# Altium schematic symbol library motionboard.SchLib: 158 symbols (part 1 of 2)
Pins are listed as number, name and electrical type; pins without a type are passive.

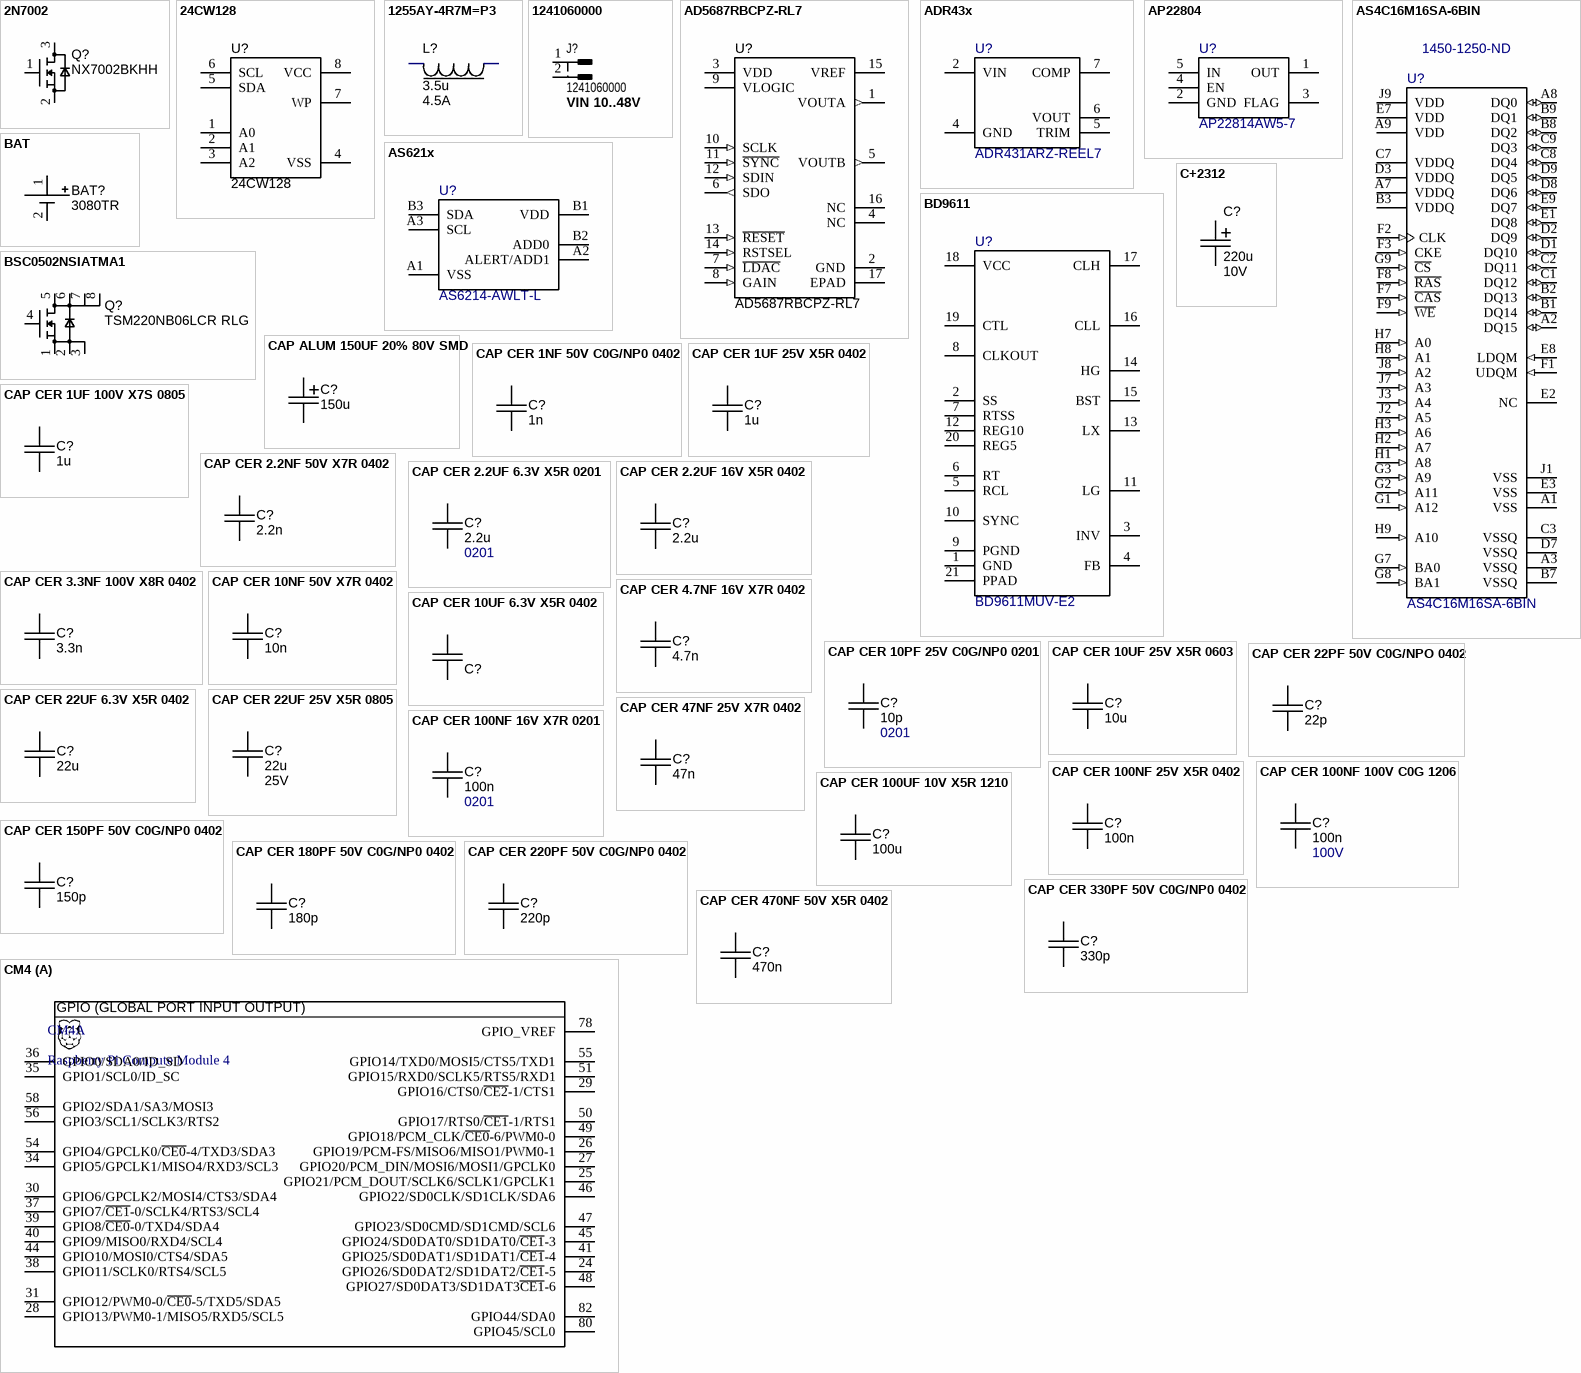
[diagram p0: symbols 2N7002 to CM4]

## 2N7002
designator Q?, comment NX7002BKHH
N-Channel 60 V 350mA (Ta) 380mW (Ta), 2.8W (Tc) Surface Mount DFN0606-3; Value: 2N7002; Supplier 1: Digi-Key; Supplier Part Number 1: 1727-8574-1-ND
footprint SOT8001/DFN0606-3
pins: 1 VCC, 2 VCC, 3 VCC

## 24CW128
designator U?
Supplier 1: Digi-Key; Supplier Part Number 1: 24CW1280T-I/OTCT-ND
footprint SOIC8 (8-Pin Small Outline Integrated Circuit 1.27 mm Pitch, IPC Low Density)
pins: 1 A0, 2 A1, 3 A2, 4 VSS, 5 SDA, 6 SCL, 7 WP, 8 VCC

## 1255AY-4R7M=P3
designator L?  value 3.5u  Isat: 4.5A  (hidden comment: 1255AY-4R7M=P3)
4.7 µH Shielded Drum Core, Wirewound Inductor 4 A 23mOhm Nonstandard; Supplier 1: Digi-Key; Supplier Part Number 1: 490-10812-1-ND
footprint IND_1255AY-4R7M=P3
pins: 1, 2

## 1241060000
designator J?  Function: VIN 10..48V
2 Position Terminal Block Header, Male Pins, Shrouded (4 Side) 0.200" (5.08mm) 90°, Right Angle Through Hole; Supplier 1: Digi-Key; Supplier Part Number 1: 281-4411-ND
footprint CONN 2POS WEIDMULLER 5.08mm
pins: 1, 2

## AD5687RBCPZ-RL7
designator U?
12 Bit Digital to Analog Converter 2 16-LFCSP (3x3); Supplier 1: Digi-Key; Supplier Part Number 1: 505-AD5687RBCPZ-RL7CT-ND
footprint QFN50P300X300X80_HS-17N (QFN, 16-Leads, Body 3.00x3.00mm, Pitch 0.50mm, Thermal Pad 1.60x1.60mm, IPC Medium Density)
pins: 1 VOUTA (out) "Analog Output Voltage from DAC A", 2 GND (power), 3 VDD (power) "Power Supply Input", 4 NC, 5 VOUTB (out) "Analog Output Voltage from DAC B", 6 SDO (out), 7 ~{LDAC} (in), 8 GAIN (in), 9 VLOGIC (power) "Digital Power Supply", 10 SCLK (in), 11 ~{SYNC} (in), 12 SDIN (in), 13 ~{RESET} (in), 14 RSTSEL (in), 15 VREF, 16 NC, 17 EPAD

## ADR43x
designator U?, comment ADR431ARZ-REEL7
Series Voltage Reference IC Fixed 2.5V V ±0.12% 30 mA 8-SOIC; Supplier 1: Digi-Key; Supplier Part Number 1: ADR431ARZ-REEL7CT-ND
footprint SOIC8 (8-Pin Small Outline Integrated Circuit 1.27 mm Pitch, IPC Low Density)
pins: 2 VIN, 4 GND, 5 TRIM, 6 VOUT, 7 COMP

## AP22804
designator U?, comment AP22814AW5-7
Power Switch/Driver 1:1 P-Channel 3A SOT-25; Supplier 1: Digi-Key; Supplier Part Number 1: AP22814AW5-7DICT-ND
footprint SOT23-5 (SOT23, 5-Leads, Body 3.0x2.6mm (max), Pitch 0.95mm, IPC Low Density)
pins: 1 OUT, 2 GND, 3 FLAG, 4 EN, 5 IN

## AS4C16M16SA-6BIN
designator U?  Supplier Part Number 1: 1450-1250-ND
IC DRAM 256MBIT PARALLEL 54TFBGA / SDRAM Memory IC 256Mb (16M x 16) Parallel 166 MHz 5 ns 54-TFBGA (8x8); Supplier 1: Digi-Key
footprint TFBGA-54
pins: A1 VSS (power), A2 DQ15 (io), A3 VSSQ (power), A7 VDDQ (power), A8 DQ0 (io), A9 VDD (power), B1 DQ14 (io), B2 DQ13 (io), B3 VDDQ (power), B7 VSSQ (power), B8 DQ2 (io), B9 DQ1 (io), C1 DQ12 (io), C2 DQ11 (io), C3 VSSQ (power), C7 VDDQ (power), C8 DQ4 (io), C9 DQ3 (io), D1 DQ10 (io), D2 DQ9 (io), D3 VDDQ (power), D7 VSSQ (power), D8 DQ6 (io), D9 DQ5 (io), E1 DQ8 (io), E2 NC, E3 VSS (power), E7 VDD (power), E8 LDQM (in), E9 DQ7 (io), F1 UDQM (in), F2 CLK (in), F3 CKE (in), F7 ~{CAS} (in), F8 ~{RAS} (in), F9 ~{WE} (in), G1 A12 (in), G2 A11 (in), G3 A9 (in), G7 BA0 (in), G8 BA1 (in), G9 ~{CS} (in), H1 A8 (in), H2 A7 (in), H3 A6 (in), H7 A0 (in), H8 A1 (in), H9 A10 (in), J1 VSS (power), J2 A5 (in), J3 A4 (in), J7 A3 (in), J8 A2 (in), J9 VDD (power)

## AS621x
designator U?, comment AS6214-AWLT-L
Temperature Sensor Digital, Local -40°C ~ 125°C 16 b 6-WLCSP (1.5x1); Supplier 1: Digi-Key; Supplier Part Number 1: 4991-AS6214-AWLT-LCT-ND
footprint BGA6C40P3X2_131X102X60 (BGA, 6-Leads, Body 1.31x1.02mmx0.60mm, Pitch 0.40mm)
pins: A1 VSS, A2 ALERT/ADD1, A3 SCL, B1 VDD, B2 ADD0, B3 SDA

## BAT
designator BAT?, comment 3080TR
Supplier Part Number 1: 36-3080CT-ND; Supplier 1: Digi-Key
footprint BAT_BK-916-TR
pins: 1 +, 2 -

## BD9611
designator U?, comment BD9611MUV-E2
Buck Regulator Positive Output Step-Down DC-DC Controller IC VQFN020V4040; Supplier 1: Digi-Key; Supplier Part Number 1: BD9611MUV-E2CT-ND; Supplier 2: Mouser; Supplier Part Number 2: 755-BD9611MUV-E2
footprint QFN50P400X400X90-21N
pins: 1 GND, 2 SS, 3 INV, 4 FB, 5 RCL, 6 RT, 7 RTSS, 8 CLKOUT, 9 PGND, 10 SYNC, 11 LG, 12 REG10, 13 LX, 14 HG, 15 BST, 16 CLL, 17 CLH, 18 VCC, 19 CTL, 20 REG5, 21 PPAD

## BSC0502NSIATMA1
designator Q?, comment TSM220NB06LCR RLG
N-Channel 60 V 8A (Ta), 35A (Tc) 3.1W (Ta), 68W (Tc) Surface Mount 8-PDFN (5x6); Supplier 1: Digi-Key; Supplier Part Number 1: TSM220NB06LCRRLGCT-ND
footprint TRANS_TSM220NB06LCR_RLG
pins: 1 S, 2 S, 3 S, 4 Gate, 5 D, 6 D, 7 D, 8 D

## C+2312
designator C?, comment 220u  Voltage: 10V
CAP TANT 220UF 20% 10V 2312; Supplier 1: Digi-Key; Supplier Part Number 1: 478-8899-1-ND
footprint CAPPM6032X280N
pins: 1 +, 2 -

## CAP ALUM 150UF 20% 80V SMD
designator C?, comment 150u
150 µF 80 V Aluminum Electrolytic Capacitors Radial, Can - SMD 320mOhm @ 100kHz 5000 Hrs @ 105°C; Voltage: 80V; ESR: 320m@100kHz; Supplier 1: Digi-Key; Supplier Part Number 1: P124707CT-ND
footprint CAP_EEEFK1K151AV
pins: 1 +, 2 -

## CAP CER 1NF 50V C0G/NP0 0402
designator C?, comment 1n
1 nF ±5% 50V Ceramic Capacitor C0G, NP0 0402 (1005 Metric); Dielectric: NPO; Voltage: 50V; Supplier 1: Digi-Key; Supplier Part Number 1: 490-3244-1-ND; Value: 1n
footprint SM/C0402 (Chip Resistor, 2-Leads, Body 1.00x0.50mm, IPC Medium Density)
pins: 1, 2

## CAP CER 1UF 25V X5R 0402
designator C?, comment 1u
1 µF ±20% 25V Ceramic Capacitor X5R 0402 (1005 Metric); Voltage: 25V; Dielectric: X5R; Supplier 1: Digi-Key; Supplier Part Number 1: 587-3245-1-ND; Value: 1u
footprint SM/C0402 (Chip Resistor, 2-Leads, Body 1.00x0.50mm, IPC Medium Density)
pins: 1, 2

## CAP CER 1UF 100V X7S 0805
designator C?, comment 1u
1 µF ±10% 100V Ceramic Capacitor X7S 0805 (2012 Metric); Voltage: 100V; Dielectric: X7S; Supplier 1: Digi-Key; Supplier Part Number 1: 490-10918-1-ND; Value: 1u
footprint SM/C0805
pins: 1, 2

## CAP CER 2.2NF 50V X7R 0402
designator C?, comment 2.2n
2.2 nF ±10% 50V Ceramic Capacitor X7R 0402 (1005 Metric); Voltage: 50V; Dielectric: X7R; Supplier 1: Digi-Key; Supplier Part Number 1: 311-3072-1-ND
footprint SM/C0402
pins: 1, 2

## CAP CER 2.2UF 6.3V X5R 0201
designator C?, comment 2.2u  Case: 0201
2.2 µF ±20% 6.3V Ceramic Capacitor X5R 0201 (0603 Metric); Voltage: 16V; Supplier 1: Digi-Key; Supplier Part Number 1: 478-KGM03CR50J225MHCT-ND; Dielectric: X5R; Value: 2.2u
footprint SM/C0201
pins: 1, 2

## CAP CER 2.2UF 16V X5R 0402
designator C?, comment 2.2u
2.2 µF ±10% 16V Ceramic Capacitor X5R 0402 (1005 Metric); Voltage: 16V; Supplier 1: Digi-Key; Supplier Part Number 1: 490-10695-1-ND; Dielectric: X5R; Value: 2.2u
footprint SM/C0402 (Chip Resistor, 2-Leads, Body 1.00x0.50mm, IPC Medium Density)
pins: 1, 2

## CAP CER 3.3NF 100V X8R 0402
designator C?, comment 3.3n
3.3 nF ±10% 100V Ceramic Capacitor X8R 0402 (1005 Metric); Voltage: 16V; Dielectric: X7R; Supplier 1: Digi-Key; Supplier Part Number 1: 445-15951-1-ND; Value: 3.3n
footprint SM/C0402
pins: 1, 2

## CAP CER 4.7NF 16V X7R 0402
designator C?, comment 4.7n
4.7 nF ±10% 16V Ceramic Capacitor X7R 0402 (1005 Metric); Voltage: 16V; Dielectric: X7R; Value: 4.7n; Supplier 1: Digi-Key; Supplier Part Number 1: 311-1709-1-ND
footprint SM/C0402 (Chip Resistor, 2-Leads, Body 1.00x0.50mm, IPC Medium Density)
pins: 1, 2

## CAP CER 10NF 50V X7R 0402
designator C?, comment 10n
10 nF ±10% 50V Ceramic Capacitor X7R 0402 (1005 Metric); Supplier 1: Digi-Key; Supplier Part Number 1: 1276-1028-1-ND; Dielectric: X7R; Value: 10n; Voltage: 50V
footprint SM/C0402 (Chip Resistor, 2-Leads, Body 1.00x0.50mm, IPC Medium Density)
pins: 1, 2

## CAP CER 10PF 25V C0G/NP0 0201
designator C?, comment 10p  Case: 0201
10 pF ±5% 25V Ceramic Capacitor C0G, NP0 0201 (0603 Metric); Dielectric: X7R; Voltage: 25V; Supplier 1: Digi-Key; Supplier Part Number 1: 490-8607-1-ND; Value: 10p
footprint SM/C0201
pins: 1, 2

## CAP CER 10UF 6.3V X5R 0402
designator C?, comment 10u  (value not drawn)
10 µF ±20% 6.3V Ceramic Capacitor X5R 0402 (1005 Metric); Supplier 1: Digi-Key; Supplier Part Number 1: 490-GRM155R60J106ME05JCT-ND; Value: 10u; Voltage: 6.3V; Dielectric: X5R
footprint SM/C0402 (Chip Resistor, 2-Leads, Body 1.00x0.50mm, IPC Medium Density)
pins: 1, 2

## CAP CER 10UF 25V X5R 0603
designator C?, comment 10u
10 µF ±20% 25V Ceramic Capacitor X5R 0603 (1608 Metric); Dielectric: X7R; Voltage: 25V; Supplier 1: Digi-Key; Supplier Part Number 1: 490-7202-1-ND; Value: 10u
footprint SM/C0603 (Chip Capacitor, Body 1.6x0.8mm, IPC Low Density)
pins: 1, 2

## CAP CER 22PF 50V C0G/NPO 0402
designator C?, comment 22p
22 pF ±2% 50V Ceramic Capacitor C0G, NP0 0402 (1005 Metric); Dielectric: NPO; Voltage: 50V; Supplier 1: Digi-Key; Supplier Part Number 1: 311-1652-1-ND; Value: 22p
footprint SM/C0402 (Chip Resistor, 2-Leads, Body 1.00x0.50mm, IPC Medium Density)
pins: 1, 2

## CAP CER 22UF 6.3V X5R 0402
designator C?, comment 22u
22 µF ±20% 6.3V Ceramic Capacitor X5R 0402 (1005 Metric); Voltage: 6.3V; Dielectric: X5R; Supplier 1: Digi-Key; Supplier Part Number 1: 478-KGM05CR50J226MHCT-ND; Value: 22u
footprint SM/C0402
pins: 1, 2

## CAP CER 22UF 25V X5R 0805
designator C?, comment 22u  Voltage: 25V
22 µF ±20% 25V Ceramic Capacitor X5R 0805 (2012 Metric); Dielectric: X5R; Supplier 1: Digi-Key; Supplier Part Number 1: 490-14661-1-ND
footprint SM/C0805 (Chip Resistor, Body 2.0x1.3mm, IPC Low Density)
pins: 1, 2

## CAP CER 47NF 25V X7R 0402
designator C?, comment 47n
47 nF ±10% 25V Ceramic Capacitor X7R 0402 (1005 Metric); Voltage: 25V; Dielectric: X7R; Supplier 1: Digi-Key; Supplier Part Number 1: 1276-CL05B473KA5VPNCCT-ND; Value: 47n
footprint SM/C0402 (Chip Resistor, 2-Leads, Body 1.00x0.50mm, IPC Medium Density)
pins: 1, 2

## CAP CER 100NF 16V X7R 0201
designator C?, comment 100n  Case: 0201
100 nF ±10% 16V Ceramic Capacitor X7R 0201 (0603 Metric); Voltage: 16V; Dielectric: X7R; Supplier 1: Digi-Key; Supplier Part Number 1: 490-GRM033Z71C104KE14DCT-ND; Value: 100n
footprint SM/C0201
pins: 1, 2

## CAP CER 100NF 25V X5R 0402
designator C?, comment 100n
100 nF ±10% 25V Ceramic Capacitor X5R 0402 (1005 Metric); Voltage: 25V; Dielectric: X5R; Supplier 1: Digi-Key; Supplier Part Number 1: 1276-1043-1-ND; Value: 100n
footprint SM/C0402
pins: 1, 2

## CAP CER 100NF 100V C0G 1206
designator C?, comment 100n  Voltage: 100V
100 nF ±5% 100V Ceramic Capacitor C0G, NP0 1206 (3216 Metric); Dielectric: NPO; Supplier 1: Digi-Key; Supplier Part Number 1: 445-172677-1-ND; Value: 100n
footprint SM/C1206 (Chip Resistor, Body 3.2x1.6mm, IPC Low Density)
pins: 1, 2

## CAP CER 100UF 10V X5R 1210
designator C?, comment 100u
100 µF ±20% 10V Ceramic Capacitor X5R 1210 (3225 Metric); Supplier 1: Digi-Key; Supplier Part Number 1: 1276-3364-1-ND; Value: 100u; Voltage: 10V; Dielectric: X5R
footprint SM/C1210 (Chip Resistor, Body 3.2x1.6mm, IPC Low Density)
pins: 1, 2

## CAP CER 150PF 50V C0G/NP0 0402
designator C?, comment 150p
150 pF ±5% 50V Ceramic Capacitor C0G, NP0 0402 (1005 Metric); Dielectric: NPO; Voltage: 50V; Value: 150p; Supplier 1: Digi-Key; Supplier Part Number 1: 1276-1046-1-ND
footprint SM/C0402 (Chip Resistor, 2-Leads, Body 1.00x0.50mm, IPC Medium Density)
pins: 1, 2

## CAP CER 180PF 50V C0G/NP0 0402
designator C?, comment 180p
180 pF ±5% 50V Ceramic Capacitor C0G, NP0 0402 (1005 Metric); Dielectric: NPO; Voltage: 50V; Supplier 1: Digi-Key; Supplier Part Number 1: 490-GCM1555C1H181JA16DCT-ND; Value: 180p
footprint SM/C0402
pins: 1, 2

## CAP CER 220PF 50V C0G/NP0 0402
designator C?, comment 220p
220 pF ±5% 50V Ceramic Capacitor C0G, NP0 0402 (1005 Metric); Dielectric: NPO; Voltage: 50V; Supplier 1: Digi-Key; Supplier Part Number 1: 1276-1059-1-ND; Value: 220p
footprint SM/C0402
pins: 1, 2

## CAP CER 330PF 50V C0G/NP0 0402
designator C?, comment 330p
330 pF ±5% 50V Ceramic Capacitor C0G, NP0 0402 (1005 Metric); Dielectric: NPO; Voltage: 50V; Supplier 1: Digi-Key; Supplier Part Number 1: 490-4928-1-ND; Value: 330p
footprint SM/C0402
pins: 1, 2

## CAP CER 470NF 50V X5R 0402
designator C?, comment 470n
470 nF ±10% 50V Ceramic Capacitor X5R 0402 (1005 Metric); Voltage: 50V; Dielectric: X5R; Value: 470n; Supplier 1: Digi-Key; Supplier Part Number 1: 490-16354-1-ND
footprint SM/C0402 (Chip Resistor, 2-Leads, Body 1.00x0.50mm, IPC Medium Density)
pins: 1, 2

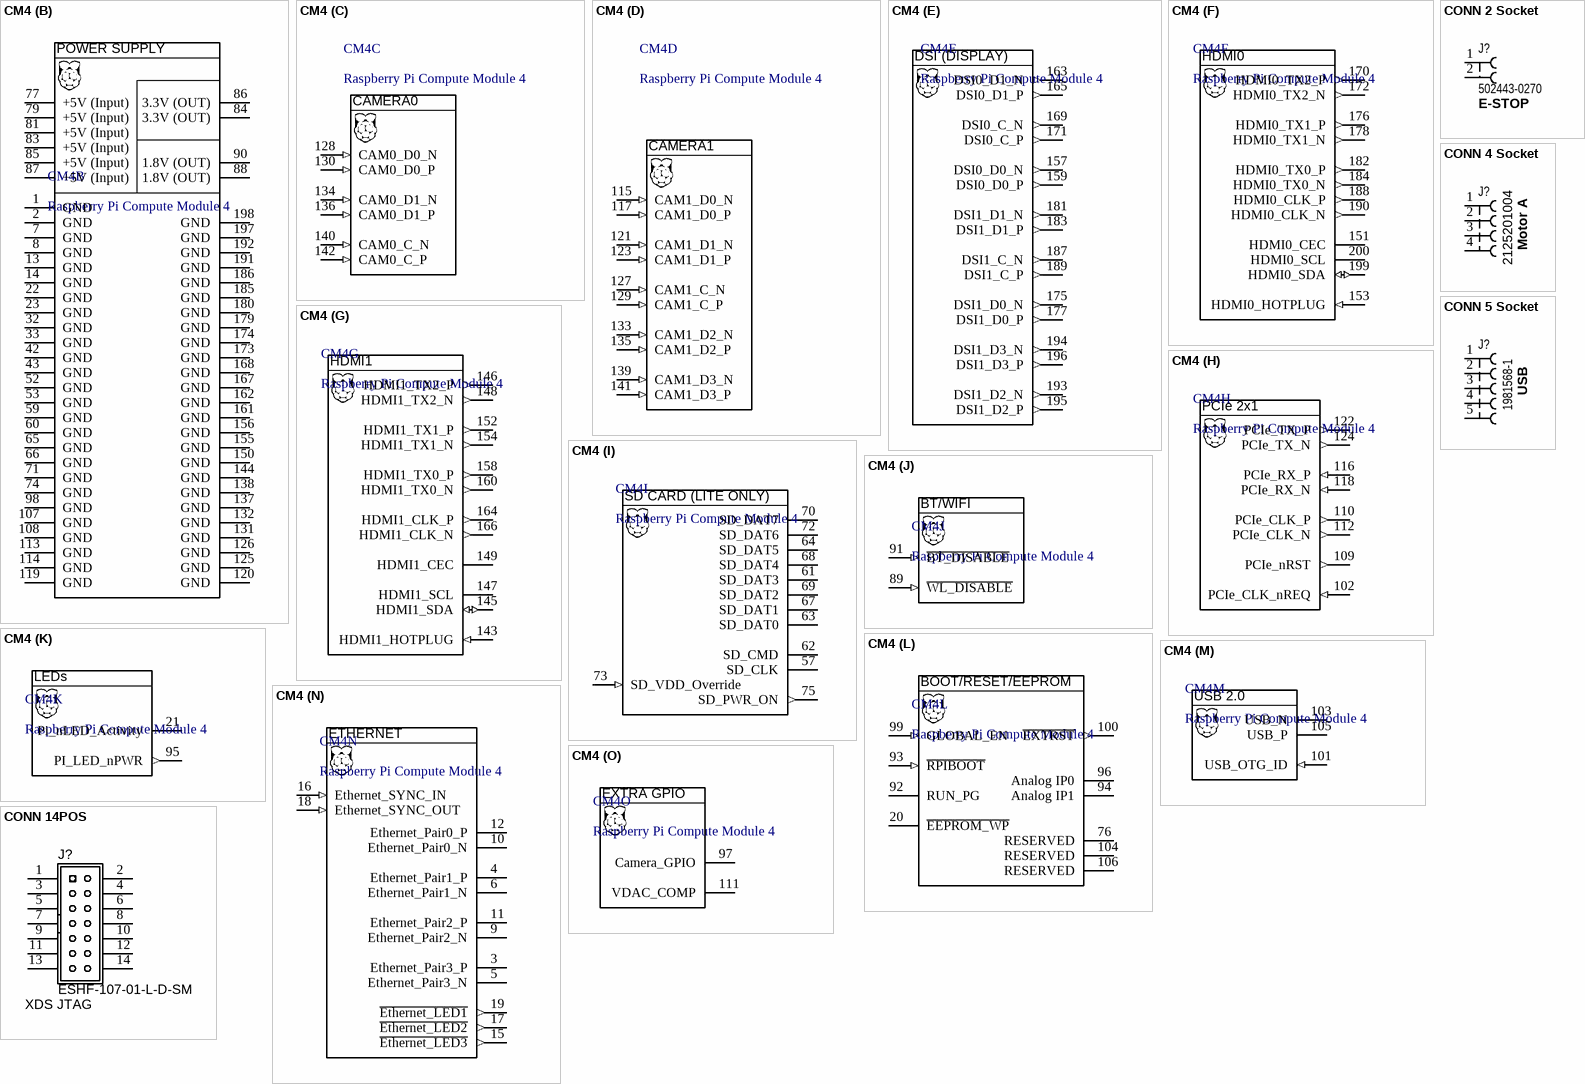
[diagram p1: symbols CM4 to CONN 14POS]

## CM4
designator CM4, comment Raspberry Pi Compute Module 4
Raspberry Pi Compute Module 4 by Amornthep Phunsin
footprint CM4-F40C-100DS-0.4v_1.5mm_0mm (DF40C-100DS-0.4v)
footprint CM4-DF40HC(3.0)-100DS-0.4v_3mm_1.5mm (DF40HC(3.0)-100DS-0.4v)
footprint CM4-RASPBERRY-PI4 (DF40C-100DS-0.4v by Amornthep Phunsin)
part A pins: 24 GPIO26/SD0DAT2/SD1DAT2/~{CE1}-5 "Pin37", 25 GPIO21/PCM_DOUT/SCLK6/SCLK1/GPCLK1 "Pin40", 26 GPIO19/PCM-FS/MISO6/MISO1/PWM0-1 "Pin35", 27 GPIO20/PCM_DIN/MOSI6/MOSI1/GPCLK0 "Pin38", 28 GPIO13/PWM0-1/MISO5/RXD5/SCL5 "Pin33 PWM1", 29 GPIO16/CTS0/~{CE2}-1/CTS1 "Pin36", 30 GPIO6/GPCLK2/MOSI4/CTS3/SDA4 "Pin31", 31 GPIO12/PWM0-0/~{CE0}-5/TXD5/SDA5 "Pin32 PWM0", 34 GPIO5/GPCLK1/MISO4/RXD3/SCL3 "Pin29", 35 GPIO1/SCL0/ID_SC "Pin28 GPIO1 SCL0", 36 GPIO0/SDA0/ID_SD "Pin27 GPIO0 SDA0", 37 GPIO7/~{CE1}-0/SCLK4/RTS3/SCL4 "Pin26 SPI0_CE1", 38 GPIO11/SCLK0/RTS4/SCL5 "Pin23 SPI0_CLK", 39 GPIO8/~{CE0}-0/TXD4/SDA4 "Pin24 SPI0_CE0", 40 GPIO9/MISO0/RXD4/SCL4 "Pin21 SPI0_MISO", 41 GPIO25/SD0DAT1/SD1DAT1/~{CE1}-4 "Pin22", 44 GPIO10/MOSI0/CTS4/SDA5 "Pin19 SPI0_MOSI", 45 GPIO24/SD0DAT0/SD1DAT0/~{CE1}-3 "Pin18", 46 GPIO22/SD0CLK/SD1CLK/SDA6 "Pin15", 47 GPIO23/SD0CMD/SD1CMD/SCL6 "Pin16", 48 GPIO27/SD0DAT3/SD1DAT3~{CE1}-6 "Pin13", 49 GPIO18/PCM_CLK/~{CE0}-6/PWM0-0 "Pin12", 50 GPIO17/RTS0/~{CE1}-1/RTS1 "Pin11", 51 GPIO15/RXD0/SCLK5/RTS5/RXD1 "Pin10 RXD0", 54 GPIO4/GPCLK0/~{CE0}-4/TXD3/SDA3 "Pin7 GPCLK0", 55 GPIO14/TXD0/MOSI5/CTS5/TXD1 "Pin8 TXD0", 56 GPIO3/SCL1/SCLK3/RTS2 "Pin5 SCL1 Internal 1.8K pull up", 58 GPIO2/SDA1/SA3/MOSI3 "Pin3 SDA1 Internal 1.8K pull up", 78 GPIO_VREF (power) "Must be connected to CM4_3.3V ( pins 84 and 86 ) for 3.3V GPIO or CM4_1.8V ( pins 88 and 90) for 1.8V GPIO. This pin cannot be floating or connected to ground", 80 GPIO45/SCL0 "IIC Clock pin ( Raspberry Pi GPIO45) Typically used for Camera and Displays Internal 1.8K pull up to CM4_3.3V", 82 GPIO44/SDA0 "IIC Data pin ( Raspberry Pi GPIO44 ) Typically used for Camera and Displays Internal 1.8K pull up to CM4_3.3V"
part B pins: 1 GND (power) "Ground (0V)", 2 GND (power) "Ground (0V)", 7 GND (power) "Ground (0V)", 8 GND (power) "Ground (0V)", 13 GND (power) "Ground (0V)", 14 GND (power) "Ground (0V)", 22 GND (power) "Ground (0V)", 23 GND (power) "Ground (0V)", 32 GND (power) "Ground (0V)", 33 GND (power) "Ground (0V)", 42 GND (power) "Ground (0V)", 43 GND (power) "Ground (0V)", 52 GND (power) "Ground (0V)", 53 GND (power) "Ground (0V)", 59 GND (power) "Ground (0V)", 60 GND (power) "Ground (0V)", 65 GND (power) "Ground (0V)", 66 GND (power) "Ground (0V)", 71 GND (power) "Ground (0V)", 74 GND (power) "Ground (0V)", 77 +5V (Input) (power) "4.75V-5.25V Main power input", 79 +5V (Input) (power) "4.75V-5.25V Main power input", 81 +5V (Input) (power) "4.75V-5.25V Main power input", 83 +5V (Input) (power) "4.75V-5.25V Main power input", 84 3.3V (OUT) (power) "3.3V +/-2.5% Power Output max 300mA per pin for a total of 600mA. This will be powered down during power off or GLOBAL_EN being set low", 85 +5V (Input) (power) "4.75V-5.25V Main power input", 86 3.3V (OUT) (power) "3.3V +/-2.5% Power Output max 300mA per pin for a total of 600mA. This will be powered down during power off or GLOBAL_EN being set low", 87 +5V (Input) (power) "4.75V-5.25V Main power input", 88 1.8V (OUT) (power) "1.8V +/-2.5% Power Output max 300mA per pin for a total of 600mA. This will be powered down during power off or GLOBAL_EN being set low", 90 1.8V (OUT) (power) "1.8V +/-2.5% Power Output max 300mA per pin for a total of 600mA. This will be powered down during power off or GLOBAL_EN being set low", 98 GND (power) "Ground (0V)", 107 GND (power) "Ground (0V)", 108 GND (power) "Ground (0V)", 113 GND (power) "Ground (0V)", 114 GND (power) "Ground (0V)", 119 GND (power) "Ground (0V)", 120 GND (power) "Ground (0V)", 125 GND (power) "Ground (0V)", 126 GND (power) "Ground (0V)", 131 GND (power) "Ground (0V)", 132 GND (power) "Ground (0V)", 137 GND (power) "Ground (0V)", 138 GND (power) "Ground (0V)", 144 GND (power) "Ground (0V)", 150 GND (power) "Ground (0V)", 155 GND (power) "Ground (0V)", 156 GND (power) "Ground (0V)", 161 GND (power) "Ground (0V)", 162 GND (power) "Ground (0V)", 167 GND (power) "Ground (0V)", 168 GND (power) "Ground (0V)", 173 GND (power) "Ground (0V)", 174 GND (power) "Ground (0V)", 179 GND (power) "Ground (0V)", 180 GND (power) "Ground (0V)", 185 GND (power) "Ground (0V)", 186 GND (power) "Ground (0V)", 191 GND (power) "Ground (0V)", 192 GND (power) "Ground (0V)", 197 GND (power) "Ground (0V)", 198 GND (power) "Ground (0V)"
part C pins: 128 CAM0_D0_N (in) "Input Camera0 D0 Negative", 130 CAM0_D0_P (in) "Input Camera0 D0 Positive", 134 CAM0_D1_N (in) "Input Camera0 D1 Negative", 136 CAM0_D1_P (in) "Input Camera0 D1 Positive", 140 CAM0_C_N (in) "Input Camera0 Clock Negative", 142 CAM0_C_P (in) "Input Camera0 Clock Positive"
part D pins: 115 CAM1_D0_N (in) "Input Camera1 D0 Negative", 117 CAM1_D0_P (in) "Input Camera1 D0 Positive", 121 CAM1_D1_N (in) "Input Camera1 D1 Negative", 123 CAM1_D1_P (in) "Input Camera1 D1 Positive", 127 CAM1_C_N (in) "Input Camera1 Clock Negative", 129 CAM1_C_P (in) "Input Camera1 Clock Positive", 133 CAM1_D2_N (in) "Input Camera1 D2 Negative", 135 CAM1_D2_P (in) "Input Camera1 D2 Positive", 139 CAM1_D3_N (in) "Input Camera1 D3 Negative", 141 CAM1_D3_P (in) "Input Camera1 D3 Positive"
part E pins: 157 DSI0_D0_N (out) "Output Display0 D0 Negative", 159 DSI0_D0_P (out) "Output Display0 D0 Positive", 163 DSI0_D1_N (out) "Output Display0 D1 Negative", 165 DSI0_D1_P (out) "Output Display0 D1 Positive", 169 DSI0_C_N (out) "Output Display0 Clock Negative", 171 DSI0_C_P (out) "Output Display0 Clock Positive", 175 DSI1_D0_N (out) "Output Display1 D0 Negative", 177 DSI1_D0_P (out) "Output Display1 D0 Positive", 181 DSI1_D1_N (out) "Output Display1 D1 Negative", 183 DSI1_D1_P (out) "Output Display1 D1 Positive", 187 DSI1_C_N (out) "Output Display1 Clock Negative", 189 DSI1_C_P (out) "Output Display1 Clock Positive", 193 DSI1_D2_N (out) "Output Display1 D2 Negative", 194 DSI1_D3_N (out) "Output Display1 D3 Negative", 195 DSI1_D2_P (out) "Output Display1 D2 Positive", 196 DSI1_D3_P (out) "Output Display1 D3 Positive"
part F pins: 151 HDMI0_CEC (oc) "Input HDMI0 CEC Internally pulled up with a 27K. 5V tolerant (It can be connected directly to a HDMI connector a small amount of ESD protection is provided on the CM4 by an on board HDMI05-CL02F3)", 153 HDMI0_HOTPLUG (in) "Input HDMI0 Hotplug Internally pulled down 100K. 5V tolerant. (It can be connected directly to a HDMI connector a small amount of ESD protection is provided on the CM4 by an on board HDMI05-CL02F3)", 170 HDMI0_TX2_P (out) "Output HDMI0 TX2 Positive", 172 HDMI0_TX2_N (out) "Output HDMI0 TX2 Negative", 176 HDMI0_TX1_P (out) "Output HDMI0 TX1 Positive", 178 HDMI0_TX1_N (out) "Output HDMI0 TX1 Negative", 182 HDMI0_TX0_P (out) "Output HDMI0 TX0 Positive", 184 HDMI0_TX0_N (out) "Output HDMI0 TX0 Negative", 188 HDMI0_CLK_P (out) "Output HDMI0 Clock Positive", 190 HDMI0_CLK_N (out) "Output HDMI0 Clock Negative", 199 HDMI0_SDA (io) "Bidir HDMI0 SDA Internally pulled up with a 1.8K. 5V tolerant. (It can be connected directly to a HDMI connector a small amount of ESD protection is provided on the CM4 by an on board HDMI05-CL02F3)", 200 HDMI0_SCL (oc) "Bidir HDMI0 SCL Internally pulled up with a 1.8K. 5V tolerant. (It can be connected directly to a HDMI connector a small amount of ESD protection is provided on the CM4 by an on board HDMI05-CL02F3)"
part G pins: 143 HDMI1_HOTPLUG (in) "Input HDMI1 Hotplug Internally pulled down with a 100K. 5V tolerant. (It can be connected directly to a HDMI connector a small amount of ESD protection is provided on the CM4 by an on board HDMI05-CL02F3)", 145 HDMI1_SDA (io) "Bidir HDMI1 SDA Internally pulled up with a 1.8K. 5V tolerant. (It can be connected directly to a HDMI connector a small amount of ESD protection is provided on the CM4 by an on board HDMI05-CL02F3)", 146 HDMI1_TX2_P (out) "Output HDMI1 TX2 Positive", 147 HDMI1_SCL (oc) "Input HDMI1 SCL Internally pulled up with a 1.8K. 5V tolerant. (It can be connected directly to a HDMI connector a small amount of ESD protection is provided on the CM4 by an on board HDMI05-CL02F3)", 148 HDMI1_TX2_N (out) "Output HDMI1 TX2 Negative", 149 HDMI1_CEC (oc) "Input HDMI1 CEC Internally pulled up with a 27K. 5V tolerant. (It can be connected directly to a HDMI connector a small amount of ESD protection is provided on the CM4 by an on board HDMI05-CL02F3)", 152 HDMI1_TX1_P (out) "Output HDMI1 TX1 Positive", 154 HDMI1_TX1_N (out) "Output HDMI1 TX1 Negative", 158 HDMI1_TX0_P (out) "Output HDMI1 TX0 Positive", 160 HDMI1_TX0_N (out) "Output HDMI1 TX0 Negative", 164 HDMI1_CLK_P (out) "Output HDMI1 Clock Positive", 166 HDMI1_CLK_N (out) "Output HDMI1 Clock Negative"
part H pins: 102 PCIe_CLK_nREQ (in) "Input ( 3.3V signal) PCIe Clock request pin (low to request PCI clock). Internal pulled up", 109 PCIe_nRST (out) "Output (+3.3V signal) PCIe Reset Low active", 110 PCIe_CLK_P (out) "PCIe Clock Out Positive (100MHz) NB AC coupling Capacitor Included on CM4", 112 PCIe_CLK_N (out) "PCIe Clock Out Negative (100MHz) NB AC coupling Capacitor Included on CM4", 116 PCIe_RX_P (in) "Input PCIe GEN 2 RX Positive NB External AC coupling Capacitor required", 118 PCIe_RX_N (in) "Input PCIe GEN 2 RX Negative NB External AC coupling Capacitor required", 122 PCIe_TX_P (out) "Output PCIe GEN 2 TX Positive NB AC coupling Capacitor Included on CM4", 124 PCIe_TX_N (out) "Output PCIe GEN 2 TX Positive NB AC coupling Capacitor Included on CM4"
part I pins: 57 SD_CLK "SDCARD Clock signal (only available on CM4Lite)", 61 SD_DAT3 "SDCARD/eMMC Data3 signal (only available on CM4Lite)", 62 SD_CMD "SDCARD/eMMC Command signal (only available on CM4Lite)", 63 SD_DAT0 "SDCARD/eMMC Data0 signal (only available on CM4Lite)", 64 SD_DAT5 "SDCARD/eMMC Data5 signal (only available on CM4Lite)", 67 SD_DAT1 "SDCARD/eMMC Data1 signal (only available on CM4Lite)", 68 SD_DAT4 "SDCARD/eMMC Data4 signal (only available on CM4Lite)", 69 SD_DAT2 "SDCARD/eMMC Data2 signal (only available on CM4Lite)", 70 SD_DAT7 "SDCARD/eMMC Data7 signal (only available on CM4Lite)", 72 SD_DAT6 "SDCARD/eMMC Data6 signal (only available on CM4Lite)", 73 SD_VDD_Override (in) "Force SDCARD/eMMC interface to 1.8V signalling if set to 3.3V, otherwise leave unconnected. Typically only used if external eMMC is connected", 75 SD_PWR_ON (out) "Output to Power switch for SDCARD. CM4 sets this pin High (3.3V) to signal that Power to the SDCARD should be turned on. If booting from the SDCARD is required then a pullup should be fitted (only available on CM4Lite)"
part J pins: 89 ~{WL_DISABLE} (in) "Can be left floating if driven low the wireless interface will be disabled. Internal pulled up via 1.8K to CM4_3.3V", 91 ~{BT_DISABLE} (in) "Can be left floating if driven low the Bluetooth interface will be disabled. Internal pulled up via 1.8K to CM4_3.3V"
part K pins: 21 Pi_nLED_Activity (oc) "Low Active Pi Activity LED. 20mA Max 5V tolerant ( VOL<0.4V). ( this is the signal that drives the Green LED on the Raspberry Pi 4, Model B )", 95 PI_LED_nPWR (out) "Low active Output to drive Power On LED. This signal needs to be buffered."
part L pins: 20 ~{EEPROM_WP} "Leaving floating NB internally pulled up to CM4_3.3V via 100K ( VIL <0.8V) but can be grounded to prevent writing to the on board EEPROM which stores the bootcode", 76 RESERVED "Do not Connect anything to this pin.", 92 RUN_PG "Bidirectional pin. Can be driven low ( via a 220R resistor) to Reset the CM4 CPU. As an Output a high signals Power Good and CPU running. Internally pulled up to +3.3V via 10K", 93 ~{RPIBOOT} (in) "A low on this pin force booting from an RPI server ( e.g PC or a Raspberry Pi)  if not used leave floating. Internally pulled via 10K to +3.3V", 94 Analog IP1 "Analogue input of the MAX7704. Typically connected to CC pin of Type C power connector", 96 Analog IP0 "Analogue input of the MAX7704. Typically connected to CC pin of Type C power connector", 99 GLOBAL_EN (in) "Input. Drive low to power off CM4. Internally pulled up with a 100K to +5V", 100 ~{EXTRST} (out) "Output Driven low during reset Driven high (CM4_3.3V) once CM4 CPU has started to boot", 104 RESERVED "Do not Connect anything to this pin.", 106 RESERVED "Do not Connect anything to this pin."
part M pins: 101 USB_OTG_ID (in) "Input ( 3.3V signal ) USB OTG Pin. Internal pulled up. When grounded the CM4 becomes a USB host but the correct OS driver also needs to be used", 103 USB_N "USB D-", 105 USB_P "USB D+"
part N pins: 3 Ethernet_Pair3_P "Ethernet Pair 3 Positive ( connect to Transformer or MagJack)", 4 Ethernet_Pair1_P "Ethernet Pair 1 Positive ( connect to Transformer or MagJack)", 5 Ethernet_Pair3_N "Ethernet Pair 3 Negative ( connect to Transformer or MagJack)", 6 Ethernet_Pair1_N "Ethernet Pair 1 Negative ( connect to Transformer or MagJack)", 9 Ethernet_Pair2_N "Ethernet Pair 2 Negative ( connect to Transformer or MagJack)", 10 Ethernet_Pair0_N "Ethernet Pair 0 Negative ( connect to Transformer or MagJack)", 11 Ethernet_Pair2_P "Ethernet Pair 2 Positive ( connect to Transformer or MagJack)", 12 Ethernet_Pair0_P "Ethernet Pair 0 Positive ( connect to Transformer or MagJack)", 15 ~{Ethernet_LED3} (out) "Low Active Ethernet Activity indicator ( 3.3V signal) Typically a Green LED is connected to this pin: IOL = 8mA @ VOL< 0.4V", 16 Ethernet_SYNC_IN (in) "IEEE1588 SYNC Input pin ( 1.8V signal : IOL = 8mA @ VOL< 0.4V )", 17 ~{Ethernet_LED2} (out) "Low Active Ethernet speed indicator ( 3.3V signal) Typically a Yellow LED is connected to this pin. A low State indicates the 1Gbit or 100Mbit Link : IOL = 8mA @ VOL< 0.4V", 18 Ethernet_SYNC_OUT (in) "IEEE1588 SYNC Output pin ( 1.8V signal : IOL = 8mA @ VOL< 0.4V )", 19 ~{Ethernet_LED1} (out) "Low Active Ethernet speed indicator ( 3.3V signal) Typically a Yellow LED is connected to this pin. A low State indicates the 1Gbit or 10Mbit Link : IOL = 8mA @ VOL< 0.4V"
part O pins: 97 Camera_GPIO "Typically used to Shutdown the camera to reduce power. Reassigning this pin to another function isn’t recommended. CM4_3.3V signalling", 111 VDAC_COMP "Video DAC output (TV OUT)"
part A text: GPIO (GLOBAL PORT INPUT OUTPUT)
part B text: POWER SUPPLY
part C text: CAMERA0
part D text: CAMERA1
part E text: DSI (DISPLAY)
part F text: HDMI0
part G text: HDMI1
part H text: PCIe 2x1
part I text: SD CARD (LITE ONLY)
part J text: BT/WIFI
part K text: LEDs
part L text: BOOT/RESET/EEPROM
part M text: USB 2.0
part N text: ETHERNET
part O text: EXTRA GPIO

## CONN 2 Socket
designator J?, comment 502443-0270  Function: E-STOP
2 Position Receptacle Connector 0.079" (2.00mm) Surface Mount Tin; Supplier 1: Digi-Key; Supplier Part Number 1: WM15808CT-ND
footprint MOLEX/5024430270/CLIK-MATE/2mm
pins: 1, 2

## CONN 4 Socket
designator J?, comment 2125201004  Function: Motor A
Connector Header Through Hole 4 position 0.165" (4.20mm); Supplier 1: Digi-Key; Supplier Part Number 1: 900-2125201004-ND
footprint MOLEX/2125201004
pins: 1, 2, 3, 4

## CONN 5 Socket
designator J?, comment 1981568-1  Function: USB
USB - micro B USB 2.0 Receptacle Connector 5 Position Surface Mount, Right Angle; Supplier 1: Digi-Key; Supplier Part Number 1: A97800CT-ND
footprint TE/1981568-1/USB
pins: 1, 2, 3, 4, 5

## CONN 14POS
designator J?, comment ESHF-107-01-L-D-SM  Function: XDS JTAG
Connector Header Surface Mount 14 position 0.050" (1.27mm); Supplier 1: Digi-Key; Supplier Part Number 1: ESHF-107-01-L-D-SM-ND
footprint SAMTEC_SHF-107-01-L-D-SM
pins: 1, 2, 3, 4, 5, 6, 7, 8, 9, 10, 11, 12, 13, 14

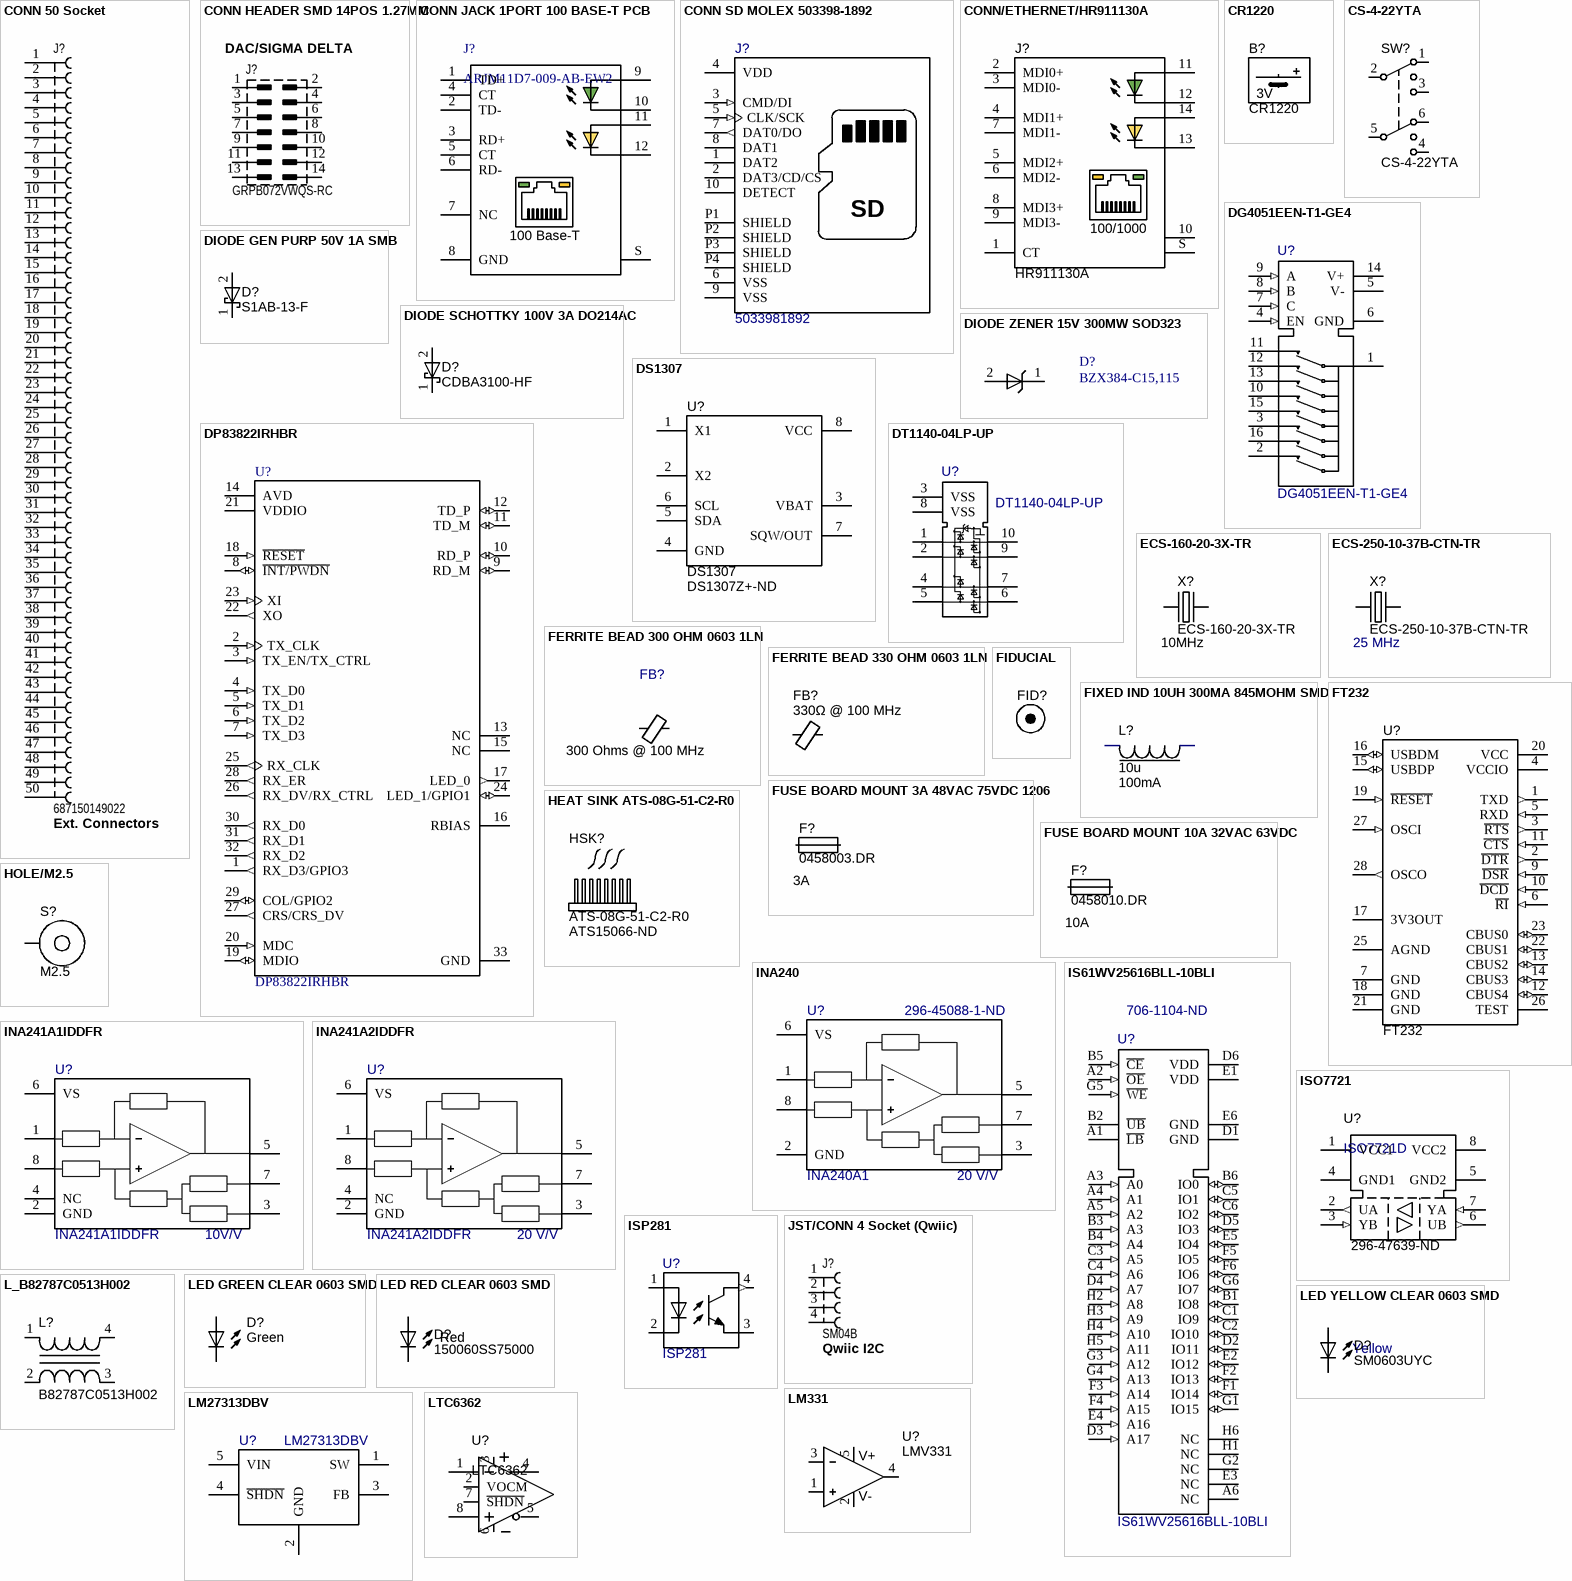
[diagram p2: symbols CONN 50 Socket to LTC6362]

## CONN 50 Socket
designator J?, comment 687150149022  Function: Ext. Connectors
50 Position FFC, FPC Connector Contacts, Bottom 0.020" (0.50mm) Surface Mount, Right Angle; Supplier 1: Digi-Key; Supplier Part Number 1: 732-6015-1-ND
footprint 687150149022
pins: 1, 2, 3, 4, 5, 6, 7, 8, 9, 10, 11, 12, 13, 14, 15, 16, 17, 18, 19, 20, 21, 22, 23, 24, 25, 26, 27, 28, 29, 30, 31, 32, 33, 34, 35, 36, 37, 38, 39, 40, 41, 42, 43, 44, 45, 46, 47, 48, 49, 50

## CONN HEADER SMD 14POS 1.27MM
designator J?, comment GRPB072VWQS-RC  Function: DAC/SIGMA DELTA
Connector Header Surface Mount 14 position 0.050" (1.27mm); Supplier 1: Digi-Key; Supplier Part Number 1: S9012E-07-ND
footprint FTSH-107-04-LM-DV
pins: 1, 2, 3, 4, 5, 6, 7, 8, 9, 10, 11, 12, 13, 14

## CONN JACK 1PORT 100 BASE-T PCB
designator J?, comment ARJM11D7-009-AB-EW2
1 Port RJ45Through Hole 10/100 Base-T, AutoMDIX; Supplier 1: Digi-Key; Supplier Part Number 1: 535-ARJM11D7-009-AB-EW2-ND
footprint ARJM11D7-009-AB-EW2 (ARJM11D7-009-AB-EW2 Manufacturer Guidelines)
pins: 1 TD+, 2 TD-, 3 RD+, 4 CT, 5 CT, 6 RD-, 7 NC, 8 GND, 9 LED_GREEN1, 10 LED_GREEN2, 11 LED_YELLOW1, 12 LED_YELLOW2, S
text: 100 Base-T

## CONN SD MOLEX 503398-1892
designator J?, comment 5033981892
9 (8 + 1) Position Card Connector Secure Digital - microSD™ Surface Mount, Right Angle Gold; Supplier 1: Digi-Key; Supplier Part Number 1: WM11190CT-ND
footprint MOLEX_503398-1892
pins: 1 DAT2, 2 DAT3/CD/CS, 3 CMD/DI (in), 4 VDD (power), 5 CLK/SCK (in), 6 VSS (power), 7 DAT0/DO (out), 8 DAT1, 9 VSS (power), 10 DETECT, P1 SHIELD, P2 SHIELD, P3 SHIELD, P4 SHIELD
text: SD

## CONN/ETHERNET/HR911130A
designator J?, comment HR911130A
footprint CONN/ETHERNET/HR911130A
pins: 1 CT, 2 MDI0+, 3 MDI0-, 4 MDI1+, 5 MDI2+, 6 MDI2-, 7 MDI1-, 8 MDI3+, 9 MDI3-, 10 CHS GND, 11 LED_GREEN1, 12 LED_GREEN2, 13 LED_YELLOW2, 14 LED_YELLOW1, S
text: 100/1000

## CR1220
designator B?  (mechanical)
Lithum battery (LiCB) / 3V / 40mAh / 12.5 mm / 0.77 g; Supplier 1: Digi-Key; Supplier Part Number 1: P033-ND
text: 3V

## CS-4-22YTA
designator SW?
Dip Switch DPDT 2 Position Surface Mount Rotary for Tool Actuator 100mA 16VDC; Supplier 1: Digi-Key; Supplier Part Number 1: 563-1039-1-ND
footprint CS-4-22YA (CS-4-22 series, SMD 6 J-Lead, Body 5.00x4.5mm, Manufacturer Guidelines)
pins: 1 2A, 2 CA, 3 1A, 4 2B, 5 CB, 6 1B

## DG4051EEN-T1-GE4
designator U?
1 Circuit IC Switch 8:1 78Ohm 16-miniQFN (1.8x2.6); Supplier 1: Digi-Key; Supplier Part Number 1: DG4051EEN-T1-GE4CT-ND
footprint QFN40P180X260X60-16N (QFN, 16-Leads, Body 1.80x2.60mm, Pitch 0.40mm, IPC Medium Density)
pins: 1 X, 2 X7, 3 X5, 4 EN (in), 5 V- (power), 6 GND (power), 7 C (in), 8 B (in), 9 A (in), 10 X3, 11 X0, 12 X1, 13 X2, 14 V+ (power), 15 X4, 16 X6
1 alternate drawing of the same symbol

## DIODE GEN PURP 50V 1A SMB
designator D?, comment S1AB-13-F
Diode 50 V 1A Surface Mount SMB; Supplier 1: Digi-Key; Supplier Part Number 1: S1AB-FDICT-ND
footprint DIOM4336X25N (Molded Diode, 2-Leads, Body 4.30x3.65mm, IPC Medium Density)
pins: 1 K, 2 A

## DIODE SCHOTTKY 100V 3A DO214AC
designator D?, comment CDBA3100-HF
Diode 100 V 3A Surface Mount DO-214AC (SMA); Supplier 1: Digi-Key; Supplier Part Number 1: 641-1747-1-ND
footprint DO214AC
pins: 1 K, 2 A

## DIODE ZENER 15V 300MW SOD323
designator D?, comment BZX384-C15,115
Zener Diode 15 V 300 mW ±5% Surface Mount SOD-323; Mounting: SMD; Supplier 1: Digi-Key; Supplier Part Number 1: 1727-4986-1-ND
footprint SODFL250X110-2N (SODFL, 2-Leads, Body 1.25x2.50mm, IPC Medium Density)
pins: 1 K, 2 A (power)

## DP83822IRHBR
designator U?
Ethernet Interface 32-VQFN (5x5); Price: None; Package: None; Availability: Unavailable; MP: DP83822IRHBR; Value: *; Supplier 1: Digi-Key; Supplier Part Number 1: 296-47256-6-ND
footprint IC_DP83822IRHBR
pins: 1 RX_D3/GPIO3 (out), 2 TX_CLK (in), 3 TX_EN/TX_CTRL (in), 4 TX_D0 (in), 5 TX_D1 (in), 6 TX_D2 (in), 7 TX_D3 (in), 8 ~{INT/PWDN} (io), 9 RD_M (io), 10 RD_P (io), 11 TD_M (io), 12 TD_P (io), 13 NC, 14 AVD (power), 15 NC, 16 RBIAS, 17 LED_0 (out), 18 ~{RESET} (in), 19 MDIO (io), 20 MDC (in), 21 VDDIO (power), 22 XO (out), 23 XI (in), 24 LED_1/GPIO1 (io), 25 RX_CLK (out), 26 RX_DV/RX_CTRL (out), 27 CRS/CRS_DV (out), 28 RX_ER (out), 29 COL/GPIO2 (io), 30 RX_D0 (out), 31 RX_D1 (out), 32 RX_D2 (out), 33 GND (power)

## DS1307
designator U?  Supplier Part Number 1: DS1307Z+-ND
RTC; Supplier 1: Digi-Key
footprint SOIC8 (8-Pin Small Outline Integrated Circuit 1.27 mm Pitch, IPC Low Density)
pins: 1 X1, 2 X2, 3 VBAT, 4 GND, 5 SDA, 6 SCL, 7 SQW/OUT, 8 VCC

## DT1140-04LP-UP
designator U?
TVS DIODE 5.5VWM 10VC U-DFN2510; Supplier 1: Digi-Key; Supplier Part Number 1: DT1140-04LP-7DICT-ND
footprint SOT1165-1
pins: 1, 2, 3 VSS, 4, 5, 6, 7, 8 VSS, 9, 10

## ECS-160-20-3X-TR
designator X?  value 10MHz
16 MHz ±30ppm Crystal 20pF 50 Ohms HC-49/US; Supplier 1: Digi-Key; Supplier Part Number 1: XC1776CT-ND
footprint XTAL-ECS-160-20-3X-TR (CRYSTAL)
pins: 1, 2

## ECS-250-10-37B-CTN-TR
designator X?  value 25 MHz
25 MHz ±10ppm Crystal 10pF 50 Ohms 4-SMD, No Lead; ESR: <50; Supplier 1: Digi-Key; Supplier Part Number 1: XC3065CT-ND
footprint XTAL_ECS-160-9-37-CKM-TR
pins: 1, 3

## FERRITE BEAD 300 OHM 0603 1LN
designator FB?, comment value 300 Ohms @ 100 MHz  (hidden comment: MI0603L301R-10)
300 Ohms @ 100 MHz 1 Power, Signal Line Ferrite Bead 0603 (1608 Metric) 2A 100mOhm; Supplier 1: Digi-Key; Supplier Part Number 1: 240-2374-1-ND
footprint SM/L0603 (Chip Capacitor, Body 1.6x0.8mm, IPC Low Density)
pins: 1, 2

## FERRITE BEAD 330 OHM 0603 1LN
designator FB?, comment value 330Ω @ 100 MHz  (hidden comment: BLM18KG331SN1D)
330 Ohms @ 100 MHz 1 Power Line Ferrite Bead 0603 (1608 Metric) 1.7A 80mOhm; Supplier 1: Digi-Key; Supplier Part Number 1: 490-5256-1-ND
footprint SM/L0603 (Chip Capacitor, Body 1.6x0.8mm, IPC Low Density)
pins: 1, 2

## FIDUCIAL
designator FID?, comment Fiducial 1.5 mm  (value not drawn)  (no BOM)
footprint FIDUCIAL (Fiducial marker)

## FIXED IND 10UH 300MA 845MOHM SMD
designator L?, comment 10u  Isat: 100mA
10 µH Shielded Multilayer Inductor 300 mA 845mOhm Max 0805 (2012 Metric); Value: 10u; Supplier 1: Digi-Key; Supplier Part Number 1: 490-18463-1-ND
footprint SM/L0805 (Footprint not found)
pins: 1, 2

## FT232
designator U?
Supplier 1: Digi-Key; Supplier Part Number 1: 768-1007-1-ND
footprint SSOP28
pins: 1 TXD (out), 2 ~{DTR} (out), 3 ~{RTS} (out), 4 VCCIO (power), 5 RXD (in), 6 ~{RI} (in), 7 GND, 9 ~{DSR} (in), 10 ~{DCD} (in), 11 ~{CTS} (in), 12 CBUS4 (io), 13 CBUS2 (io), 14 CBUS3 (io), 15 USBDP (io), 16 USBDM (io), 17 3V3OUT, 18 GND, 19 ~{RESET} (in), 20 VCC (power), 21 GND, 22 CBUS1 (io), 23 CBUS0 (io), 25 AGND, 26 TEST, 27 OSCI (in), 28 OSCO (out)

## FUSE BOARD MOUNT 3A 48VAC 75VDC 1206
designator F?, comment 0458003.DR  value 3A
3 A 48 V AC 75 V DC Fuse Board Mount (Cartridge Style Excluded) Surface Mount 1206 (3216 Metric); Supplier 1: Digi-Key; Supplier Part Number 1: F2933CT-ND
footprint SM/R1206 (Chip Resistor, Body 3.2x1.6mm, IPC Low Density)
pins: 1, 2

## FUSE BOARD MOUNT 10A 32VAC 63VDC
designator F?, comment 0458010.DR  value 10A
10 A 32 V AC 63 V DC Fuse Board Mount (Cartridge Style Excluded) Surface Mount 1206 (3216 Metric); Supplier 1: Digi-Key; Supplier Part Number 1: F2941CT-ND
footprint SM/R1206 (Chip Resistor, Body 3.2x1.6mm, IPC Low Density)
pins: 1, 2

## HEAT SINK ATS-08G-51-C2-R0
designator HSK?, comment ATS-08G-51-C2-R0  Supplier Part Number 1: ATS15066-ND
HEATSINK 30X30X20MM L-TAB T766; Supplier 1: Digi-Key
footprint ATS-08G-51-C2-R0

## HOLE/M2.5
designator S?, comment M2.5  (no BOM)
footprint HW/HOLE/M2.5/VIA
pins: 1

## INA240
designator U?, comment INA240A1  Gain: 20 V/V  Supplier Part Number 1: 296-45088-1-ND
Current Sense Amplifier 1 Circuit - 8-SOIC; Supplier 1: Digi-Key
footprint SOIC8 (8-Pin Small Outline Integrated Circuit 1.27 mm Pitch, IPC Low Density)
pins: 1 IN-, 2 GND, 3 REF2, 5 OUT, 6 VS, 7 REF1, 8 IN+

## INA241A1IDDFR
designator U?  Gain: 10V/V
Current Sense Amplifier 10V/V  1 Circuit Single-Ended TSOT-23-8; Supplier 1: Digi-Key; Supplier Part Number 1: 296-INA241A1IDDFRCT-ND
footprint SOT65P280X110-8N (SOT23, 8-Leads, Body 2.90x1.60mm, Pitch 0.65mm, IPC Medium Density)
pins: 1 IN-, 2 GND, 3 REF2, 4 NC, 5 OUT, 6 VS, 7 REF1, 8 IN+

## INA241A2IDDFR
designator U?  Gain: 20 V/V
Current Sense Amplifier 1 Circuit Single-Ended TSOT-23-8; Supplier 1: Digi-Key; Supplier Part Number 1: 296-INA241A2IDDFRDKR-ND
footprint SOT65P280X110-8N (SOT23, 8-Leads, Body 2.90x1.60mm, Pitch 0.65mm, IPC Medium Density)
pins: 1 IN-, 2 GND, 3 REF2, 4 NC, 5 OUT, 6 VS, 7 REF1, 8 IN+

## IS61WV25616BLL-10BLI
designator U?  Supplier Part Number 1: 706-1104-ND
SRAM - Asynchronous Memory IC 4Mb (256K x 16) Parallel 10 ns 48-TFBGA (6x8); Supplier 1: Digi-Key
footprint BGA48C75P8X6_800X600X120N
pins: A1 ~{LB}, A2 ~{OE} (in), A3 A0 (in), A4 A1 (in), A5 A2 (in), A6 NC, B1 IO8 (io), B2 ~{UB}, B3 A3 (in), B4 A4 (in), B5 ~{CE} (in), B6 IO0 (io), C1 IO9 (io), C2 IO10 (io), C3 A5 (in), C4 A6 (in), C5 IO1 (io), C6 IO2 (io), D1 GND (power), D2 IO11 (io), D3 A17 (in), D4 A7 (in), D5 IO3 (io), D6 VDD (power), E1 VDD (power), E2 IO12 (io), E3 NC, E4 A16 (in), E5 IO4 (io), E6 GND (power), F1 IO14 (io), F2 IO13 (io), F3 A14 (in), F4 A15 (in), F5 IO5 (io), F6 IO6 (io), G1 IO15 (io), G2 NC, G3 A12 (in), G4 A13 (in), G5 ~{WE} (in), G6 IO7 (io), H1 NC, H2 A8 (in), H3 A9 (in), H4 A10 (in), H5 A11 (in), H6 NC

## ISO7721
designator U?, comment ISO7721D  Supplier Part Number 1: 296-47639-ND
Supplier 1: Digi-Key
footprint SOIC8 (8-Pin Small Outline Integrated Circuit 1.27 mm Pitch, IPC Low Density)
pins: 1 VCC1, 2 UA (out), 3 YB (in), 4 GND1, 5 GND2, 6 UB (out), 7 YA (in), 8 VCC2

## ISP281
designator U?
OPTOISOLATR 5KV TRANSISTOR 4-SMD; Value: ISP281; Supplier 1: Digi-Key; Supplier Part Number 1: 58-ISP281DCT-ND
footprint SOIC-4
pins: 1 A, 2 K, 3 E, 4 C (out)

## JST/CONN 4 Socket (Qwiic)
designator J?, comment SM04B  Function: Qwiic I2C
JST Qwiic Connector; Supplier 1: Digi-Key; Supplier Part Number 1: 455-2645-6-ND
footprint QWIIC-SM04B-SRSS-TB
pins: 1, 2, 3, 4

## L_B82787C0513H002
designator L?, comment B82787C0513H002
CMC 51UH 200MA 2LN SMD AEC-Q200; Supplier 1: Digi-Key; Supplier Part Number 1: 445-3958-1-ND
footprint ACT45B (COMMON MODE CHOKE)
pins: 1, 2, 3, 4

## LED GREEN CLEAR 0603 SMD
designator D?, comment Color: Green  (hidden comment: 598-8070-107F)
Green 568nm LED Indication - Discrete 2V 0603 (1608 Metric); Supplier 1: Digi-Key; Supplier Part Number 1: 350-2035-1-ND
footprint SM/LED0603 (Chip Capacitor, Body 1.6x0.8mm, IPC Low Density)
pins: 1, 2

## LED RED CLEAR 0603 SMD
designator D?, comment 150060SS75000  Color: Red
Red 630nm LED Indication - Discrete 1.9V 0603 (1608 Metric); Supplier 1: Digi-Key; Supplier Part Number 1: 732-4979-1-ND
footprint SM/LED0603 (Chip Capacitor, Body 1.6x0.8mm, IPC Low Density)
pins: 1, 2

## LED YELLOW CLEAR 0603 SMD
designator D?, comment SM0603UYC  Color: Yellow
Yellow 592nm LED Indication - Discrete 2.1V 0603 (1608 Metric); Supplier 1: Digi-Key; Supplier Part Number 1: 492-1325-1-ND
footprint SM/LED0603 (Chip Capacitor, Body 1.6x0.8mm, IPC Low Density)
pins: 1, 2

## LM331
designator U?, comment LMV331
Comparator General Purpose CMOS, Open-Collector, TTL SOT-23-5; Supplier 1: Digi-Key; Supplier Part Number 1: 296-6633-1-ND
footprint SOT23-5 (SOT23, 5-Leads, Body 3.0x2.6mm (max), Pitch 0.95mm, IPC Low Density)
pins: 1 IN+, 2 V-, 3 IN-, 4 OUT, 5 V+
1 alternate drawing of the same symbol

## LM27313DBV
designator U?
Boost Switching Regulator IC Positive Adjustable 5V 1 Output 800mA (Switch) SC-74A, SOT-753; Supplier 1: Digi-Key; Supplier Part Number 1: LM27313XMF/NOPBCT-ND
footprint SOT23-6 (SOT23, 6-Leads, Body 3.1x3.2mm (max), Pitch 0.95mm, IPC Medium Density)
pins: 1 SW, 2 GND (power), 3 FB, 4 ~{SHDN}, 5 VIN (power)

## LTC6362
designator U?
pins: 1 IN-, 2 VOCM, 3 V+, 4 OUT+, 5 OUT-, 6 V+, 7 ~{SHDN}, 8 IN+

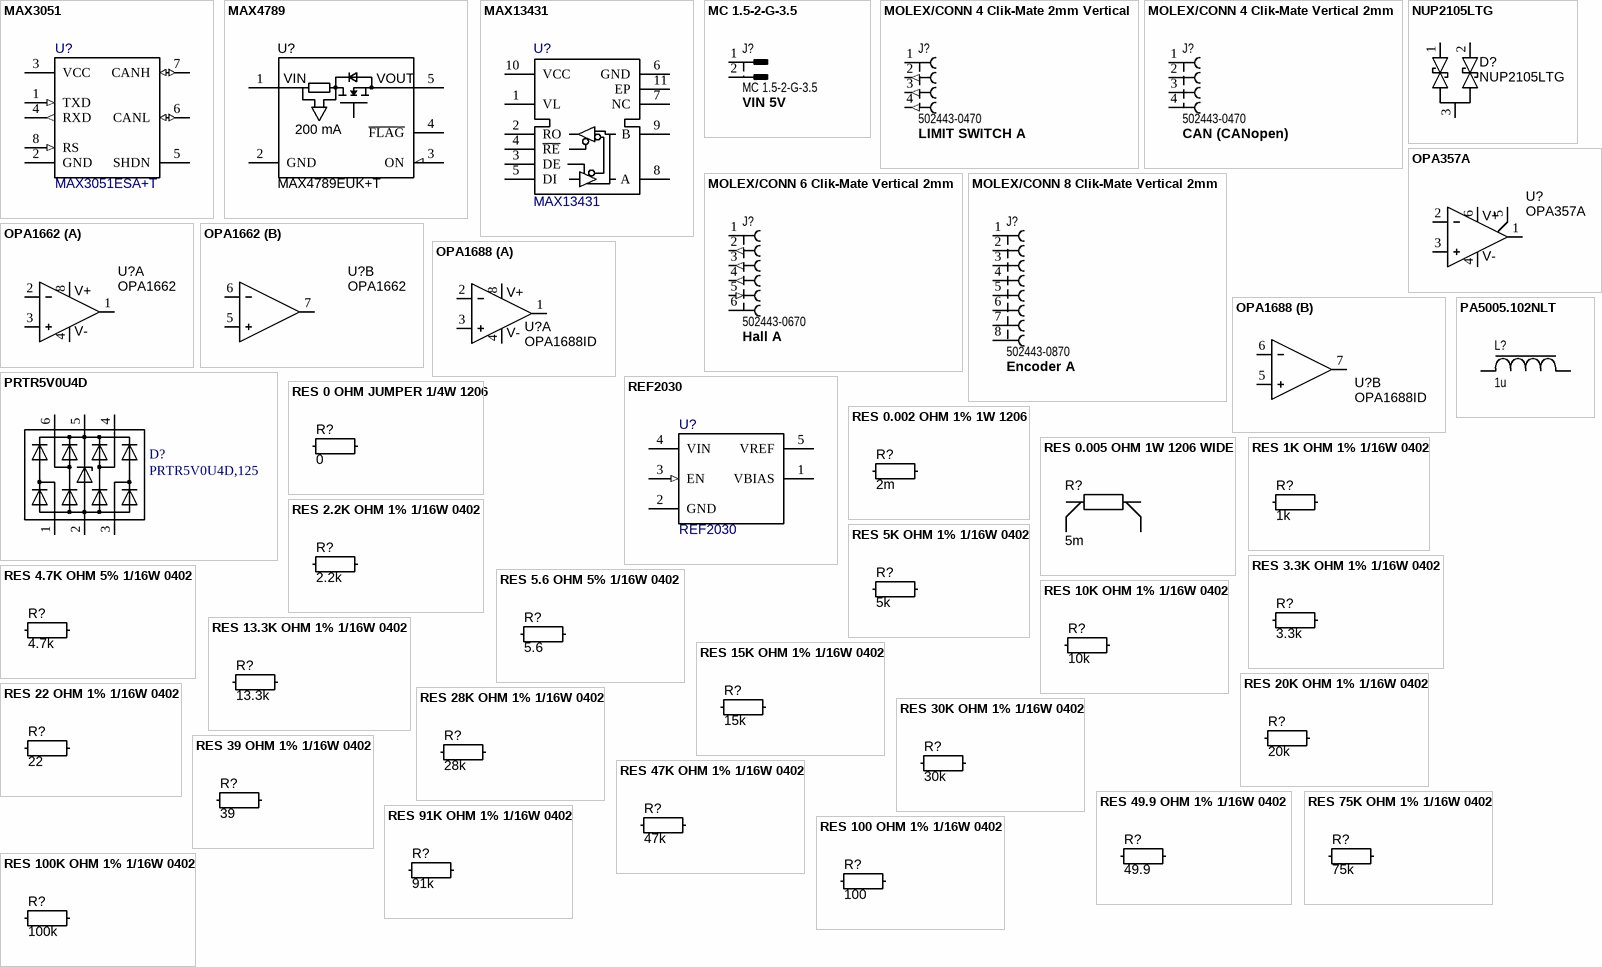
[diagram p3: symbols MAX3051 to RES 100K OHM 1% 1/16W 0402]

## MAX3051
designator U?, comment MAX3051ESA+T
1/1 Transceiver Half CANbus 8-SOIC; Supplier 1: Digi-Key; Supplier Part Number 1: MAX3051ESA+CT-ND
footprint SOIC8 (8-Pin Small Outline Integrated Circuit 1.27 mm Pitch, IPC Low Density)
pins: 1 TXD (in), 2 GND (power), 3 VCC (power), 4 RXD (out), 5 SHDN (power), 6 CANL (io), 7 CANH (io), 8 RS (in)

## MAX4789
designator U?, comment MAX4789EUK+T
Current Limiting Regulator 200mA SOT-23-5; Voltage: 2.3..5.5V; Supplier 1: Digi-Key; Supplier Part Number 1: MAX4789EUK+TCT-ND
footprint SOT23-5 (SOT23, 5-Leads, Body 3.0x2.6mm (max), Pitch 0.95mm, IPC Low Density)
pins: 1 VIN, 2 GND, 3 ON, 4 ~{FLAG}, 5 VOUT
text: 200 mA

## MAX13431
designator U?
1/1 Transceiver Half RS422, RS485 10-TDFN (3x3); Supplier 1: Digi-Key; Supplier Part Number 1: MAX13431EETB+TCT-ND
footprint DFN10_3x3MC_MCH-M
pins: 1 VL, 2 RO, 3 DE, 4 ~{RE}, 5 DI, 6 GND, 7 NC, 8 A, 9 B, 10 VCC, 11 EP

## MC 1.5-2-G-3.5
designator J?  Function: VIN 5V
Supplier 1: Digi-Key; Supplier Part Number 1: 277-2416-ND
footprint CONN2/PHOENIX/MC 1.5-2-G-3.5
pins: 1, 2

## MOLEX/CONN 4 Clik-Mate 2mm Vertical
designator J?, comment 502443-0470  Function: LIMIT SWITCH A
CLIK-Mate Vertical Receptacle, PCB Receptacle, Surface Mount, 1 Rows, 4 Contacts, 2mm Pitch, Molex; Supplier 1: Distrelec; Supplier Part Number 1: 30161193
footprint MOLEX/5024430470/CLIK-MATE/2mm
pins: 1, 2 (out), 3 (out), 4 (out)

## MOLEX/CONN 4 Clik-Mate Vertical 2mm
designator J?, comment 502443-0470  Function: CAN (CANopen)
CLIK-Mate Vertical Receptacle, PCB Receptacle, Surface Mount, 1 Rows, 4 Contacts, 2mm Pitch, Molex; Supplier 1: Distrelec; Supplier Part Number 1: 30161193
footprint MOLEX/5024430470/CLIK-MATE/2mm
pins: 1, 2, 3, 4

## MOLEX/CONN 6 Clik-Mate Vertical 2mm
designator J?, comment 502443-0670  Function: Hall A
CLIK-Mate Vertical Receptacle, PCB Receptacle, Surface Mount, 1 Rows, 6 Contacts, 2mm Pitch, Molex; Supplier 1: Distrelec; Supplier Part Number 1: 30161194
footprint MOLEX/5024430670/CLIK-MATE/2mm
pins: 1, 2 (out), 3 (out), 4 (out), 5 (in), 6

## MOLEX/CONN 8 Clik-Mate Vertical 2mm
designator J?, comment 502443-0870  Function: Encoder A
CLIK-Mate Vertical Receptacle, PCB Receptacle, Surface Mount, 1 Rows, 8 Contacts, 2mm Pitch, Molex; Supplier 1: Distrelec; Supplier Part Number 1: 30161195
footprint MOLEX/5024430870/CLIK-MATE/2mm
pins: 1, 2, 3, 4, 5, 6, 7, 8

## NUP2105LTG
designator D?
Supplier 1: Digi-Key; Supplier Part Number 1: NUP2105LT1GOSCT-ND
footprint SOT23-3 (SOT23, 3-Leads, Body 3.0x2.6mm (max), Pitch 0.95mm, IPC Low Density)
pins: 1, 2 21, 3

## OPA357A
designator U?
Voltage Feedback Amplifier 1 Circuit Rail-to-Rail SOT-23-6; SR: 150 V/us; Supplier 1: Digi-Key; Parameter 1: *; Supplier Part Number 1: 296-13009-1-ND
footprint SOT23-6 (SOT23, 6-Leads, Body 3.1x3.2mm (max), Pitch 0.95mm, IPC Medium Density)
pins: 1 OUT, 2 IN-, 3 IN+, 4 V-, 5 EN, 6 V+
1 alternate drawing of the same symbol

## OPA1662
designator U?
Dual operational amplifier; Supplier 1: Digi-Key; Supplier Part Number 1: 296-36692-1-ND
footprint SOIC8 (8-Pin Small Outline Integrated Circuit 1.27 mm Pitch, IPC Low Density)
part A pins: 1 OUT, 2 IN-, 3 IN+, 4 V-, 8 V+
part B pins: 5 IN+, 6 IN-, 7 OUT

## OPA1688
designator U?, comment OPA1688ID
Dual operational amplifier; Supplier 1: Digi-Key; Supplier Part Number 1: 296-44515-5-ND
footprint SOIC8 (8-Pin Small Outline Integrated Circuit 1.27 mm Pitch, IPC Low Density)
part A pins: 1 OUT, 2 IN-, 3 IN+, 4 V-, 8 V+
part B pins: 5 IN+, 6 IN-, 7 OUT

## PA5005.102NLT
designator L?, comment 1u
1 µH Shielded Molded Inductor 20 A 4.52mOhm Max Nonstandard; Isat: 23A; Value: 1u; Supplier 1: Digi-Key; Supplier Part Number 1: 553-4098-1-ND
footprint PA5005.102NLT (PA5005 series Molded Inductor, 2-Leads, Body 6.40x6.60mm, Manufacturer Guidelines)
pins: 1, 2

## PRTR5V0U4D
designator D?, comment PRTR5V0U4D,125
Ultra low capacitance quadruple rail-to-rail ESD protection, surface mount 6-TSOP; Mounting: SMD; Supplier 1: Digi-Key; Supplier Part Number 1: 1727-3890-1-ND; Supplier 2: Mouser; Supplier Part Number 2: 771-PRTR5V0U4D-T/R
footprint SOT23-6 (SOT23, 6-Leads, Body 3.1x3.2mm (max), Pitch 0.95mm, IPC Medium Density)
pins: 1 ESD1, 2 VCC (power), 3 ESD2, 4 ESD3, 5 GND (power), 6 ESD4

## REF2030
designator U?
Series Voltage Reference IC Fixed 1.5V, 3V V ±0.05% 20 mA SOT-23-THIN; Supplier 1: Digi-Key; Supplier Part Number 1: 296-38496-1-ND
footprint SOT95P280X110-5N (SOT23, 5-Leads, Body 2.90x2.80mm, Pitch 0.95mm, IPC Medium Density)
pins: 1 VBIAS (power) "Bias voltage output (VREF / 2)", 2 GND (power), 3 EN (in) "Enable (EN ≥ VIN – 0.7 V, device enabled)", 4 VIN (power) "Input supply voltage", 5 VREF (power) "Reference voltage output (VREF)"

## RES 0 OHM JUMPER 1/4W 1206
designator R?, comment 0
0 Ohms Jumper Chip Resistor 1206 (3216 Metric) Automotive AEC-Q200 Thick Film; Supplier 1: Digi-Key; Supplier Part Number 1: RMCF1206ZT0R00CT-ND; Value: 0
simulation model RES (Default semiconductor resistor)
footprint SM/R1206 (Chip Resistor, Body 3.2x1.6mm, IPC Low Density)
pins: 1, 2

## RES 0.002 OHM 1% 1W 1206
designator R?, comment 2m
2 mOhms ±1% 1W Chip Resistor 1206 (3216 Metric) Current Sense, Moisture Resistant Metal Element; Supplier 1: Digi-Key; Supplier Part Number 1: CSNL1206FT2L00CT-ND; Value: 2m
simulation model RES (Default semiconductor resistor)
footprint SM/R1206 (Chip Resistor, Body 3.2x1.6mm, IPC Low Density)
pins: 1, 2

## RES 0.005 OHM 1W 1206 WIDE
designator R?, comment 5m
5 mOhms ±1% 1W Chip Resistor Wide 1206 (3216 Metric), 0612 Automotive AEC-Q200, Current Sense Metal Foil; Supplier 1: Digi-Key; Supplier Part Number 1: 408-1969-1-ND; Value: 5m
footprint SM/C0612 (Chip Resistor, Body 1.6x3.2mm, IPC Low Density)
pins: 1, 2, 3, 4

## RES 1K OHM 1% 1/16W 0402
designator R?, comment 1k
1 kOhms ±1% 0.063W, 1/16W Chip Resistor 0402 (1005 Metric) Moisture Resistant Thick Film; Supplier 1: Digi-Key; Supplier Part Number 1: 311-1.00KLRCT-ND; Value: 1k
simulation model RES (Default semiconductor resistor)
footprint SM/R0402
pins: 1, 2

## RES 2.2K OHM 1% 1/16W 0402
designator R?, comment 2.2k
2.2 kOhms ±1% 0.063W, 1/16W Chip Resistor 0402 (1005 Metric) Moisture Resistant Thick Film; Value: 2.2k; Supplier 1: Digi-Key; Supplier Part Number 1: 311-2.20KLRCT-ND
simulation model RES (Default semiconductor resistor)
footprint SM/R0402 (Chip Resistor, 2-Leads, Body 1.00x0.50mm, IPC Medium Density)
pins: 1, 2

## RES 3.3K OHM 1% 1/16W 0402
designator R?, comment 3.3k
3.3 kOhms ±1% 0.063W, 1/16W Chip Resistor 0402 (1005 Metric) Moisture Resistant Thick Film; Supplier 1: Digi-Key; Supplier Part Number 1: 311-3.30KLRCT-ND; Value: 3.3k
simulation model RES (Default semiconductor resistor)
footprint SM/R0402 (Chip Resistor, 2-Leads, Body 1.00x0.50mm, IPC Medium Density)
pins: 1, 2

## RES 4.7K OHM 5% 1/16W 0402
designator R?, comment 4.7k
4.7 kOhms ±5% 0.063W, 1/16W Chip Resistor 0402 (1005 Metric) Moisture Resistant Thick Film; Supplier 1: Digi-Key; Supplier Part Number 1: 311-4.7KJRCT-ND; Value: 4.7k
simulation model RES (Default semiconductor resistor)
footprint SM/R0402
pins: 1, 2

## RES 5.6 OHM 5% 1/16W 0402
designator R?, comment 5.6
5.6 Ohms ±5% 0.063W, 1/16W Chip Resistor 0402 (1005 Metric) Moisture Resistant Thick Film; Supplier 1: Digi-Key; Supplier Part Number 1: 311-5.6JRCT-ND; Value: 5.6
simulation model RES (Default semiconductor resistor)
footprint SM/R0402 (Chip Resistor, 2-Leads, Body 1.00x0.50mm, IPC Medium Density)
pins: 1, 2

## RES 5K OHM 1% 1/16W 0402
designator R?, comment 5k
5 kOhms ±1% 0.063W, 1/16W Chip Resistor 0402 (1005 Metric) Moisture Resistant Thick Film; Supplier 1: Digi-Key; Supplier Part Number 1: 13-RC0402FR-075KLCT-ND; Value: 5k
simulation model RES (Default semiconductor resistor)
footprint SM/R0402
pins: 1, 2

## RES 10K OHM 1% 1/16W 0402
designator R?, comment 10k
10 kOhms ±1% 0.063W, 1/16W Chip Resistor 0402 (1005 Metric) Moisture Resistant Thick Film; Supplier 1: Digi-Key; Supplier Part Number 1: 1276-3431-1-ND; Value: 10k
simulation model RES (Default semiconductor resistor)
footprint SM/R0402 (Chip Resistor, 2-Leads, Body 1.00x0.50mm, IPC Medium Density)
pins: 1, 2

## RES 13.3K OHM 1% 1/16W 0402
designator R?, comment 13.3k
13.3 kOhms ±1% 0.063W, 1/16W Chip Resistor 0402 (1005 Metric) Moisture Resistant Thick Film; Supplier 1: Digi-Key; Supplier Part Number 1: YAG2974CT-ND; Value: 13.3k
simulation model RES (Default semiconductor resistor)
footprint SM/R0402 (Chip Resistor, 2-Leads, Body 1.00x0.50mm, IPC Medium Density)
pins: 1, 2

## RES 15K OHM 1% 1/16W 0402
designator R?, comment 15k
15 kOhms ±1% 0.063W, 1/16W Chip Resistor 0402 (1005 Metric) Thick Film; Value: 15k; Supplier 1: Digi-Key; Supplier Part Number 1: 13-RC0402FR-1015KLCT-ND
simulation model RES (Default semiconductor resistor)
footprint SM/R0402 (Chip Resistor, 2-Leads, Body 1.00x0.50mm, IPC Medium Density)
pins: 1, 2

## RES 20K OHM 1% 1/16W 0402
designator R?, comment 20k
20 kOhms ±1% 0.063W, 1/16W Chip Resistor 0402 (1005 Metric) Moisture Resistant Thick Film; Supplier 1: Digi-Key; Supplier Part Number 1: 311-20.0KLRCT-ND; Value: 20k
simulation model RES (Default semiconductor resistor)
footprint SM/R0402 (Chip Resistor, 2-Leads, Body 1.00x0.50mm, IPC Medium Density)
pins: 1, 2

## RES 22 OHM 1% 1/16W 0402
designator R?, comment 22
22 Ohms ±1% 0.063W, 1/16W Chip Resistor 0402 (1005 Metric) Moisture Resistant Thick Film; Value: 22; Supplier 1: Digi-Key; Supplier Part Number 1: 311-22.0LRCT-ND
simulation model RES (Default semiconductor resistor)
footprint SM/R0402 (Chip Resistor, 2-Leads, Body 1.00x0.50mm, IPC Medium Density)
pins: 1, 2

## RES 28K OHM 1% 1/16W 0402
designator R?, comment 28k
28 kOhms ±1% 0.063W, 1/16W Chip Resistor 0402 (1005 Metric) Moisture Resistant Thick Film; Supplier 1: Digi-Key; Supplier Part Number 1: 311-28.0KLRCT-ND; Value: 28k
simulation model RES (Default semiconductor resistor)
footprint SM/R0402 (Chip Resistor, 2-Leads, Body 1.00x0.50mm, IPC Medium Density)
pins: 1, 2

## RES 30K OHM 1% 1/16W 0402
designator R?, comment 30k
30 kOhms ±1% 0.063W, 1/16W Chip Resistor 0402 (1005 Metric) Moisture Resistant Thick Film; Supplier 1: Digi-Key; Supplier Part Number 1: 311-30.0KLRCT-ND; Value: 30k
simulation model RES (Default semiconductor resistor)
footprint SM/R0402 (Chip Resistor, 2-Leads, Body 1.00x0.50mm, IPC Medium Density)
pins: 1, 2